# Altium footprint library 532614006.PcbLib: 3 footprints
Each footprint in its own frame and in the unit in brackets; x right, y up, seen from the top. Pads: shape width x height; smd on the part's side, far side on the other; paste and mask are expansions set on the pad; w line width, h text height; cw(c..) or ccw(c..) is an arc to the next point about the centre after c.
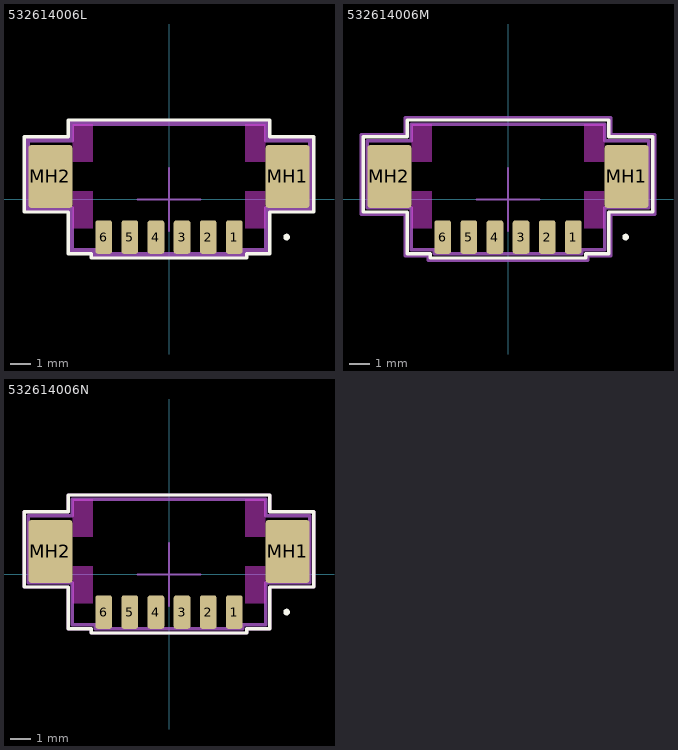
[diagram p0: the footprints below, top view; thin cyan lines are the x and y axes]

## 532614006L [mm] "Molex PicoBlade 6-Pin Right-Angle Connector with Gold Coating"
height 3.4
pads (8):
  rrect31% 0.8x1.6 smd: 1(3.125,-1.8) 2(1.875,-1.8) 3(0.625,-1.8) 4(-0.625,-1.8) 5(-1.875,-1.8) 6(-3.125,-1.8)
  rrect12% 2.1x3 smd: MH1(5.675,1.1) MH2(-5.675,1.1)
Top Layer keep-out:
  rectangle: -4.625,3.6 -3.625,1.8
  rectangle: 4.625,3.6 3.625,1.8
  rectangle: -4.625,-1.4 -3.625,0.4
  rectangle: 4.625,-1.4 3.625,0.4
Top Overlay:
  circle w0.16: c5.625,-1.8 r0.08
  lines w0.16: -6.925,-0.6 -4.825,-0.6 -4.825,-2.6 -3.725,-2.6 -3.725,-2.8 3.725,-2.8 3.725,-2.6 4.825,-2.6 4.825,-0.6 6.925,-0.6 6.925,3 4.825,3 4.825,3.8 -4.825,3.8 -4.825,3 -6.925,3 -6.925,-0.6
Top Component Center:
  lines w0.1: -1.5,0 1.5,0 ; 0,-1.5 0,1.5
Top Courtyard:
  lines w0.16: -6.825,-0.5 -4.725,-0.5 -4.725,-2.5 -3.625,-2.5 -3.625,-2.7 3.625,-2.7 3.625,-2.5 4.725,-2.5 4.725,-0.5 6.825,-0.5 6.825,2.9 4.725,2.9 4.725,3.7 -4.725,3.7 -4.725,2.9 -6.825,2.9 -6.825,-0.5
Top Assembly:
  lines w0.16: -6.725,-0.4 -4.625,-0.4 -4.625,-2.4 -3.525,-2.4 -3.525,-2.6 3.525,-2.6 3.525,-2.4 4.625,-2.4 4.625,-0.4 6.725,-0.4 6.725,2.8 4.625,2.8 4.625,3.6 -4.625,3.6 -4.625,2.8 -6.725,2.8 -6.725,-0.4
3D body "532614006L.STEP": height 3.4, standoff 0, extent -6.325,-2 6.325,3.2

## 532614006M [mm] "Molex PicoBlade 6-Pin Right-Angle Connector with Gold Coating"
height 3.4
pads (8):
  rrect31% 0.8x1.6 smd: 1(3.125,-1.8) 2(1.875,-1.8) 3(0.625,-1.8) 4(-0.625,-1.8) 5(-1.875,-1.8) 6(-3.125,-1.8)
  rrect12% 2.1x3 smd: MH1(5.675,1.1) MH2(-5.675,1.1)
Top Layer keep-out:
  rectangle: -4.625,3.6 -3.625,1.8
  rectangle: 4.625,3.6 3.625,1.8
  rectangle: -4.625,-1.4 -3.625,0.4
  rectangle: 4.625,-1.4 3.625,0.4
Top Overlay:
  circle w0.16: c5.625,-1.8 r0.08
  lines w0.16: -6.925,-0.6 -4.825,-0.6 -4.825,-2.6 -3.725,-2.6 -3.725,-2.8 3.725,-2.8 3.725,-2.6 4.825,-2.6 4.825,-0.6 6.925,-0.6 6.925,3 4.825,3 4.825,3.8 -4.825,3.8 -4.825,3 -6.925,3 -6.925,-0.6
Top Component Center:
  lines w0.1: -1.5,0 1.5,0 ; 0,-1.5 0,1.5
Top Courtyard:
  lines w0.16: -7.025,-0.7 -4.925,-0.7 -4.925,-2.7 -3.825,-2.7 -3.825,-2.9 3.825,-2.9 3.825,-2.7 4.925,-2.7 4.925,-0.7 7.025,-0.7 7.025,3.1 4.925,3.1 4.925,3.9 -4.925,3.9 -4.925,3.1 -7.025,3.1 -7.025,-0.7
Top Assembly:
  lines w0.16: -6.725,-0.4 -4.625,-0.4 -4.625,-2.4 -3.525,-2.4 -3.525,-2.6 3.525,-2.6 3.525,-2.4 4.625,-2.4 4.625,-0.4 6.725,-0.4 6.725,2.8 4.625,2.8 4.625,3.6 -4.625,3.6 -4.625,2.8 -6.725,2.8 -6.725,-0.4
3D body "532614006M.STEP": height 3.4, standoff 0, extent -6.325,-2 6.325,3.2

## 532614006N [mm] "Molex PicoBlade 6-Pin Right-Angle Connector with Gold Coating"
height 3.4
pads (8):
  rrect31% 0.8x1.6 smd: 1(3.125,-1.8) 2(1.875,-1.8) 3(0.625,-1.8) 4(-0.625,-1.8) 5(-1.875,-1.8) 6(-3.125,-1.8)
  rrect12% 2.1x3 smd: MH1(5.675,1.1) MH2(-5.675,1.1)
Top Layer keep-out:
  rectangle: -4.625,3.6 -3.625,1.8
  rectangle: 4.625,3.6 3.625,1.8
  rectangle: -4.625,-1.4 -3.625,0.4
  rectangle: 4.625,-1.4 3.625,0.4
Top Overlay:
  circle w0.16: c5.625,-1.8 r0.08
  lines w0.16: -6.925,-0.6 -4.825,-0.6 -4.825,-2.6 -3.725,-2.6 -3.725,-2.8 3.725,-2.8 3.725,-2.6 4.825,-2.6 4.825,-0.6 6.925,-0.6 6.925,3 4.825,3 4.825,3.8 -4.825,3.8 -4.825,3 -6.925,3 -6.925,-0.6
Top Component Center:
  lines w0.1: -1.5,0 1.5,0 ; 0,-1.5 0,1.5
Top Courtyard:
  lines w0.16: -6.925,-0.6 -4.825,-0.6 -4.825,-2.6 -3.725,-2.6 -3.725,-2.8 3.725,-2.8 3.725,-2.6 4.825,-2.6 4.825,-0.6 6.925,-0.6 6.925,3 4.825,3 4.825,3.8 -4.825,3.8 -4.825,3 -6.925,3 -6.925,-0.6
Top Assembly:
  lines w0.16: -6.725,-0.4 -4.625,-0.4 -4.625,-2.4 -3.525,-2.4 -3.525,-2.6 3.525,-2.6 3.525,-2.4 4.625,-2.4 4.625,-0.4 6.725,-0.4 6.725,2.8 4.625,2.8 4.625,3.6 -4.625,3.6 -4.625,2.8 -6.725,2.8 -6.725,-0.4
3D body "532614006N.STEP": height 3.4, standoff 0, extent -6.325,-2 6.325,3.2